# EAGLE library part FT4232H (library Semiconductors > Integrated Circuits - ICs > Interface ICs > USB Interface IC)
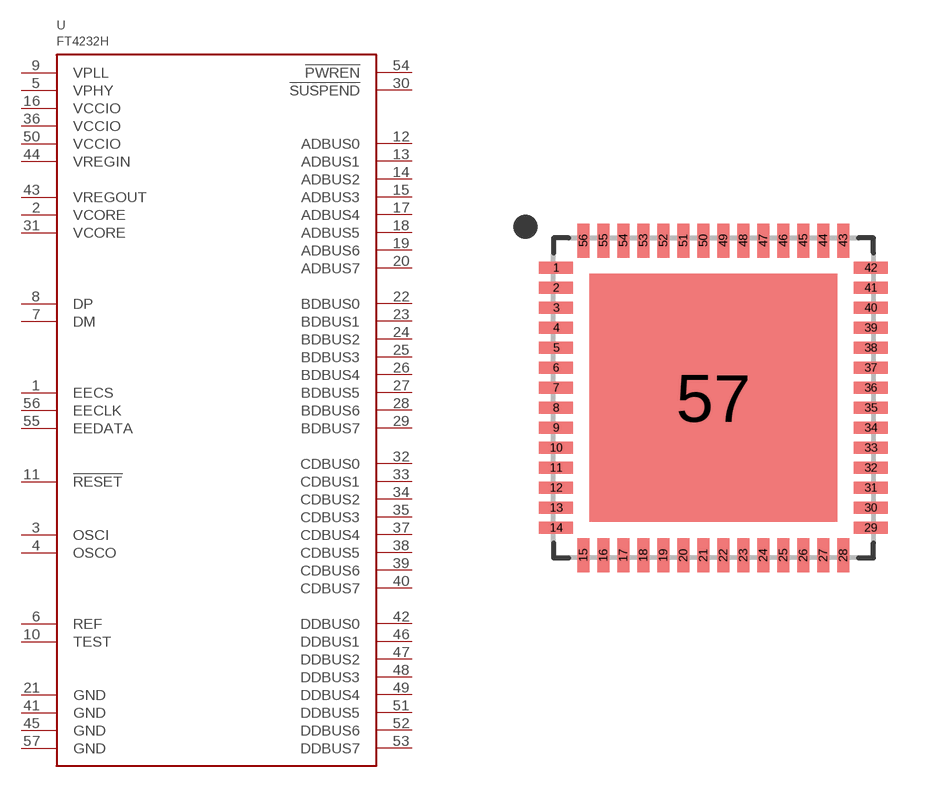
[diagram p6: symbol with the pads of QFN56; footprint QFN56]

Designator prefix U

## FT4232H-56Q  [QFN56]
1  EECS
2  VCORE
3  OSCI
4  OSCO
5  VPHY
6  REF
7  DM
8  DP
9  VPLL
10  TEST
11  !RESET
12  ADBUS0
13  ADBUS1
14  ADBUS2
15  ADBUS3
16  VCCIO
17  ADBUS4
18  ADBUS5
19  ADBUS6
20  ADBUS7
21  GND
22  BDBUS0
23  BDBUS1
24  BDBUS2
25  BDBUS3
26  BDBUS4
27  BDBUS5
28  BDBUS6
29  BDBUS7
30  !SUSPEND
31  VCORE
32  CDBUS0
33  CDBUS1
34  CDBUS2
35  CDBUS3
36  VCCIO
37  CDBUS4
38  CDBUS5
39  CDBUS6
40  CDBUS7
41  GND
42  DDBUS0
43  VREGOUT
44  VREGIN
45  GND
46  DDBUS1
47  DDBUS2
48  DDBUS3
49  DDBUS4
50  VCCIO
51  DDBUS5
52  DDBUS6
53  DDBUS7
54  !PWREN
55  EEDATA
56  EECLK
57  GND

## Footprint QFN56 (pad centres in mm)
smd 0.85 x 0.3: 1 -3.935,3.25; 2 -3.935,2.75; 3 -3.935,2.25; 4 -3.935,1.75; 5 -3.935,1.25; 6 -3.935,0.75; 7 -3.935,0.25; 8 -3.935,-0.25; 9 -3.935,-0.75; 10 -3.935,-1.25; 11 -3.935,-1.75; 12 -3.935,-2.25; 13 -3.935,-2.75; 14 -3.935,-3.25; 29 3.935,-3.25; 30 3.935,-2.75; 31 3.935,-2.25; 32 3.935,-1.75; 33 3.935,-1.25; 34 3.935,-0.75; 35 3.935,-0.25; 36 3.935,0.25; 37 3.935,0.75; 38 3.935,1.25; 39 3.935,1.75; 40 3.935,2.25; 41 3.935,2.75; 42 3.935,3.25
smd 0.3 x 0.85: 15 -3.25,-3.935; 16 -2.75,-3.935; 17 -2.25,-3.935; 18 -1.75,-3.935; 19 -1.25,-3.935; 20 -0.75,-3.935; 21 -0.25,-3.935; 22 0.25,-3.935; 23 0.75,-3.935; 24 1.25,-3.935; 25 1.75,-3.935; 26 2.25,-3.935; 27 2.75,-3.935; 28 3.25,-3.935; 43 3.25,3.935; 44 2.75,3.935; 45 2.25,3.935; 46 1.75,3.935; 47 1.25,3.935; 48 0.75,3.935; 49 0.25,3.935; 50 -0.25,3.935; 51 -0.75,3.935; 52 -1.25,3.935; 53 -1.75,3.935; 54 -2.25,3.935; 55 -2.75,3.935; 56 -3.25,3.935
smd 6.2 x 6.2: 57 0,0